# Altium footprint library XT60.PcbLib: 4 footprints
Each footprint in its own frame and in the unit in brackets; x right, y up, seen from the top. Pads: shape width x height; smd on the part's side, far side on the other; paste and mask are expansions set on the pad; w line width, h text height; cw(c..) or ccw(c..) is an arc to the next point about the centre after c.
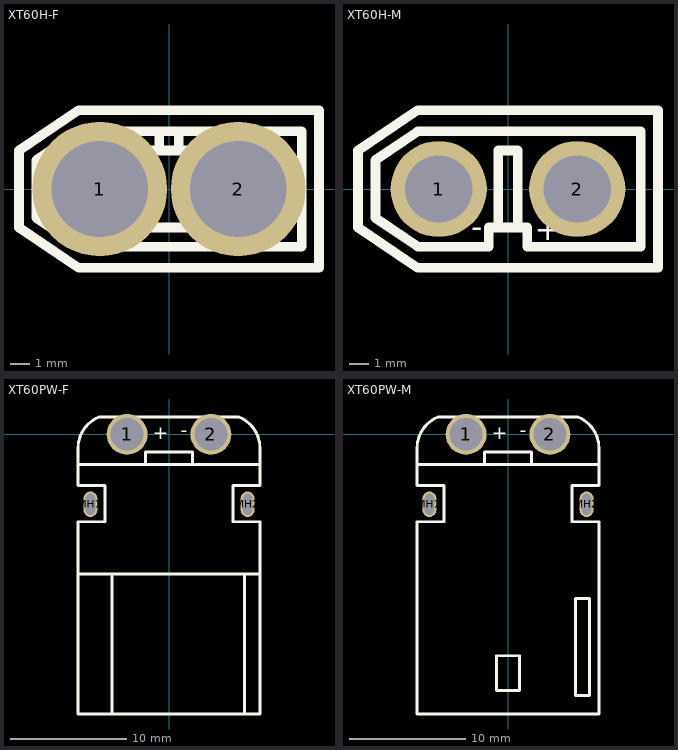
[diagram p0: the footprints below, top view; thin cyan lines are the x and y axes]

## XT60H-F [mm] "XT60H-��ͷ-����"
pads (2):
  round 7 hole 5: 1(-3.6,0) 2(3.6,0)
Top Overlay:
  lines w0.5: -4.701,3.001 -6.892,1.5 -6.892,-1.5 -4.701,-3.001 6.909,-3 6.909,3 ; -1,3 -4.701,3 6.909,3 ; -0.5,3 -0.5,2 0.5,2 0.5,3 ; 1.041,3 6.909,3 ; -7.8,-2 -7.8,2 -4.699,4.1 7.8,4.1 7.8,-4.1 -4.699,-4.1 -7.8,-2 ; -1,-2 -1,2 1,2 1,-2 -1,-2
  text "+" at 1.27,-3.048 h2.03
  text "-" at -1.905,-2.794 h2.03
3D body "XT60H male.STEP": height 16.5, standoff -4.7, extent -8.001,-4.086 7.899,4.064

## XT60H-M [mm] "XT60H-��ͷ-ĸ��"
pads (2):
  round 5 hole 3.5: 1(-3.6,0) 2(3.6,0)
Top Overlay:
  lines w0.5: -4.701,-3.001 -6.892,-1.5 -6.892,1.5 -4.701,3.001 ; -4.701,-3 -1,-3 -1,-2 1,-2 1,-3 ; -4.701,3 6.909,3 6.909,-3 1.041,-3 ; -7.8,-2 -4.699,-4.1 7.8,-4.1 7.8,4.1 -4.699,4.1 -7.8,2 -7.8,-2 ; -0.5,-2 0.5,-2 0.5,2 -0.5,2 -0.5,-2
  text "-" at -1.905,-2.921 h2.03
  text "+" at 1.397,-3.048 h2.03
3D body "XT60H female.STEP": height 17.5, standoff -4.7, extent -7.95,-4.115 7.95,4.035

## XT60PW-F [mm] "XT60PW-��ͷ-����"
pads (4):
  round 3.5 hole 2.8: 1(-3.6,0) 2(3.6,0)
  oval 1.2x2.2 hole 0.8 slot 1.8 at 90 deg: MH1(-6.75,-6) MH2(6.75,-6)
Top Overlay:
  lines w0.254: -7.802,-1.2 cw(c-4.911,-1.179) -6,1.5 ; -7.8,-2.6 7.8,-2.6 ; -7.8,-1.2 -7.8,-4.4 -5.5,-4.4 -5.5,-7.5 -7.8,-7.5 -7.8,-12 ; -4.9,-24 -4.9,-12.2 ; -2,-2.5 -2,-1.5 2,-1.5 2,-2.5 ; 6.5,-24 6.5,-12 ; 7.8,-1.2 7.8,-4.4 5.5,-4.4 5.5,-7.5 7.8,-7.5 7.8,-12 ; 7.802,-1.2 ccw(c4.911,-1.179) 6,1.5 ; -7.8,-24 7.8,-24 ; -7.8,-24 -7.8,-12 ; -7.8,-24 7.8,-24 ; -7.8,-12 1.4,-12 7.8,-12 ; -6,1.5 6,1.5 ; -6,1.5 6,1.5 ; 7.8,-24 7.8,-12
  text "+" at -1.4,-0.8 h2.03
  text "-" at 1,-0.6 h2.03
3D body: height 8.5, standoff 0, extent -7.93,-24.127 7.93,1.627

## XT60PW-M [mm] "XT60PW-��ͷ-ĸ��"
pads (4):
  round 3.5 hole 2.8: 1(-3.6,0) 2(3.6,0)
  oval 1.2x2.2 hole 0.8 slot 1.8 at 90 deg: MH1(-6.75,-6) MH2(6.75,-6)
Top Overlay:
  lines w0.254: -7.802,-1.2 cw(c-4.911,-1.179) -6,1.5 ; -7.8,-2.6 7.8,-2.6 ; -7.8,-1.2 -7.8,-4.4 -5.5,-4.4 -5.5,-7.5 -7.8,-7.5 -7.8,-12 -7.8,-24 ; -2,-2.5 -2,-1.5 2,-1.5 2,-2.5 ; 7.8,-1.2 7.8,-4.4 5.5,-4.4 5.5,-7.5 7.8,-7.5 7.8,-12 7.8,-24 ; 7.802,-1.2 ccw(c4.911,-1.179) 6,1.5 ; -7.8,-24 7.8,-24 ; -7.8,-24 7.8,-24 ; -6,1.5 6,1.5 ; -6,1.5 6,1.5 ; -1,-22 -1,-19 1,-19 1,-22 -1,-22 ; 5.8,-22.4 7,-22.4 7,-14.1 5.8,-14.1 5.8,-22.4
  text "-" at 1,-0.6 h2.03
  text "+" at -1.4,-0.8 h2.03
3D body: height 8.5, standoff 0, extent -7.93,-24.127 7.93,1.627